# EAGLE library part CARD_EDGE (library molex_046114-v2)
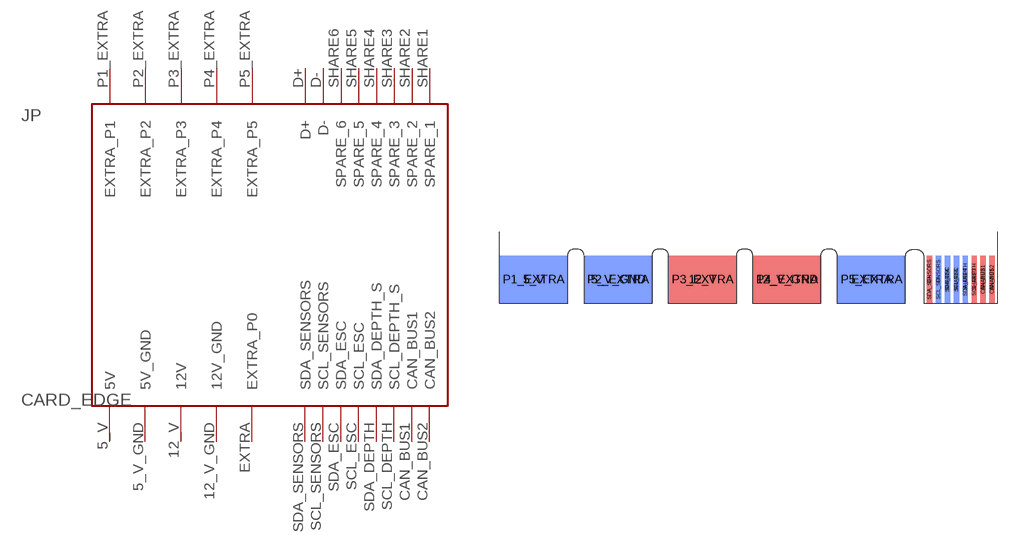
[diagram p1: symbol with the pads of CARD_EDGE; footprint CARD_EDGE]

Designator prefix JP

## CARD_EDGE  [CARD_EDGE]
5_V  5V
5_V_GND  5V_GND
12_V  12V
12_V_GND  12V_GND
CAN_BUS1  CAN_BUS1
CAN_BUS2  CAN_BUS2
D+  D+
D-  D-
EXTRA  EXTRA_P0
P1_EXTRA  EXTRA_P1
P2_EXTRA  EXTRA_P2
P3_EXTRA  EXTRA_P3
P4_EXTRA  EXTRA_P4
P5_EXTRA  EXTRA_P5
SCL_DEPTH  SCL_DEPTH_S
SCL_ESC  SCL_ESC
SCL_SENSORS  SCL_SENSORS
SDA_DEPTH  SDA_DEPTH_S
SDA_ESC  SDA_ESC
SDA_SENSORS  SDA_SENSORS
SHARE1  SPARE_1
SHARE2  SPARE_2
SHARE3  SPARE_3
SHARE4  SPARE_4
SHARE5  SPARE_5
SHARE6  SPARE_6

## Footprint CARD_EDGE (pad centres in mm)
smd 9.73 x 6.7: 5_V 4.87,3.35
smd 9.728 x 6.706: 5_V_GND 16.87,3.35; 12_V 28.87,3.35; 12_V_GND 40.87,3.35; EXTRA 52.87,3.35
smd 0.76 x 6.7: CAN_BUS1 68.72,3.35; CAN_BUS2 69.99,3.35; SCL_DEPTH 67.45,3.35; SCL_ESC 64.91,3.35; SCL_SENSORS 62.37,3.35; SDA_DEPTH 66.18,3.35; SDA_ESC 63.64,3.35; SDA_SENSORS 61.1,3.35
smd 0.76 x 6.7 bottom: D+ 61.1,3.35; D- 62.37,3.35; SHARE1 69.99,3.35; SHARE2 68.72,3.35; SHARE3 67.45,3.35; SHARE4 66.18,3.35; SHARE5 64.91,3.35; SHARE6 63.64,3.35
smd 9.73 x 6.7 bottom: P1_EXTRA 4.87,3.35
smd 9.728 x 6.706 bottom: P2_EXTRA 16.87,3.35; P3_EXTRA 28.87,3.35; P4_EXTRA 40.87,3.35; P5_EXTRA 52.87,3.35